# EAGLE library part TMP75_DGK_8 (library library)
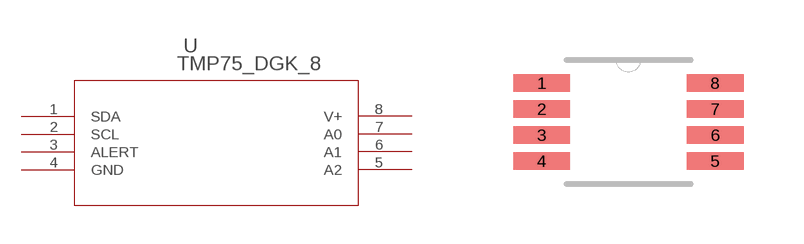
[diagram p0: symbol with the pads of DGK8; footprint DGK8]

Designator prefix U

## TMP75_DGK_8 (DATASHEETURL: http://www.ti.com/lit/gpn/TMP75; DESCRIPTION: Digital Temperature Sensor with 2-Wire Interface; FAMILY_NAME: TEMPERATURE SENSOR; GENERIC_PART_NUMBER: TMP75; INDUSTRY_STD_PKG_TYPE: MSOP; MANUFACTURER: Texas Instruments; MANUFACTURER_PART_NUMBER: tmp75_dgk_8; PACKAGE_DESIGNATOR: DGK; PIN_COUNT: 8; VENDOR: Texas Instruments)  [DGK8]
1  SDA  pas
2  SCL  pas
3  ALERT  pas
4  GND  pwr
5  A2  pas
6  A1  pas
7  A0  pas
8  V+  pwr

## Footprint DGK8 (pad centres in mm)
smd 1.422 x 0.432: 1 -2.172,0.975; 2 -2.172,0.325; 3 -2.172,-0.325; 4 -2.172,-0.975; 5 2.172,-0.975; 6 2.172,-0.325; 7 2.172,0.325; 8 2.172,0.975